# EAGLE library part ODB2 (library __MyCommonLib1)
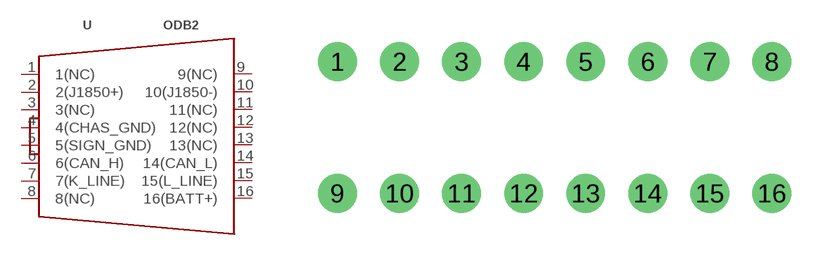
[diagram p16: symbol with the pads of ODB2; footprint ODB2]

Designator prefix -

## ODB2  [ODB2]
1  1(NC)
2  2(J1850+)
3  3(NC)
4  4(CHAS_GND)
5  5(SIGN_GND)
6  6(CAN_H)
7  7(K_LINE)
8  8(NC)
9  9(NC)
10  10(J1850-)
11  11(NC)
12  12(NC)
13  13(NC)
14  14(CAN_L)
15  15(L_LINE)
16  16(BATT+)

## Footprint ODB2 (pad centres in mm)
drill 1.4 pad 2.5: 1 -14,4.25; 2 -10,4.25; 3 -6,4.25; 4 -2,4.25; 5 2,4.25; 6 6,4.25; 7 10,4.25; 8 14,4.25; 9 -14,-4.25; 10 -10,-4.25; 11 -6,-4.25; 12 -2,-4.25; 13 2,-4.25; 14 6,-4.25; 15 10,-4.25; 16 14,-4.25